# Altium schematic symbol library XH_4PIN.SchLib: 2 symbols
Pins are listed as number, name and electrical type; pins without a type are passive.

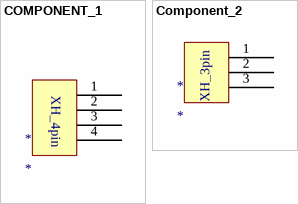
[diagram p0: symbols COMPONENT_1 to Component_2]

## COMPONENT_1
designator *
footprint XH2.54-LI-4P (接插件，4P)
footprint Model Name (Footprint not found)
footprint Model Name (Footprint not found)
footprint Model Name (Footprint not found)
pins: 1, 2, 3, 4
text: XH_4pin

## Component_2
designator *
footprint XH2.54-LI-3P (接插件，3P)
pins: 1, 2, 3
text: XH_3pin